# Altium footprint library Fairchild Semiconductor Diode.PcbLib: 1 footprints
Each footprint in its own frame and in the unit in brackets; x right, y up, seen from the top. Pads: shape width x height; smd on the part's side, far side on the other; paste and mask are expansions set on the pad; w line width, h text height; cw(c..) or ccw(c..) is an arc to the next point about the centre after c.
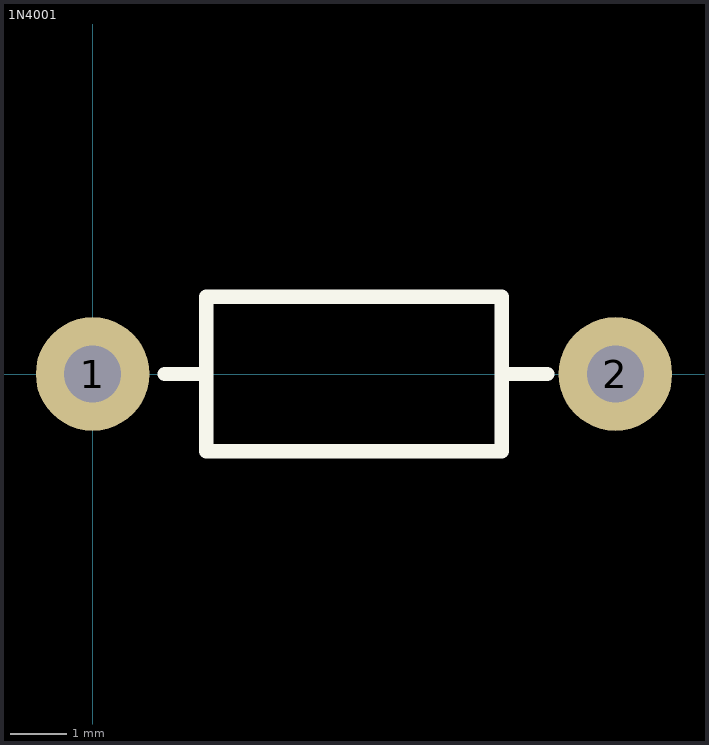
[diagram p0: the footprint, top view; thin cyan lines are the x and y axes]

## 1N4001 [mm] "Rectifiers Vr/50V Io/1A T/R"
pads (2):
  round 2 hole 1: 1(0,0) 2(9.2,0)
Top Overlay:
  lines w0.254: 1.27,0 2,0 ; 7.2,0 8.001,0 ; 2,-1.36 7.2,-1.36 7.2,1.36 2,1.36 2,-1.36